# EAGLE library part SSD1961 (library solomon-systech)
675KB Embedded Display SRAM LCD Display Controller Source: www.solomon-systech.com .. SSD1961_0.10.pdf
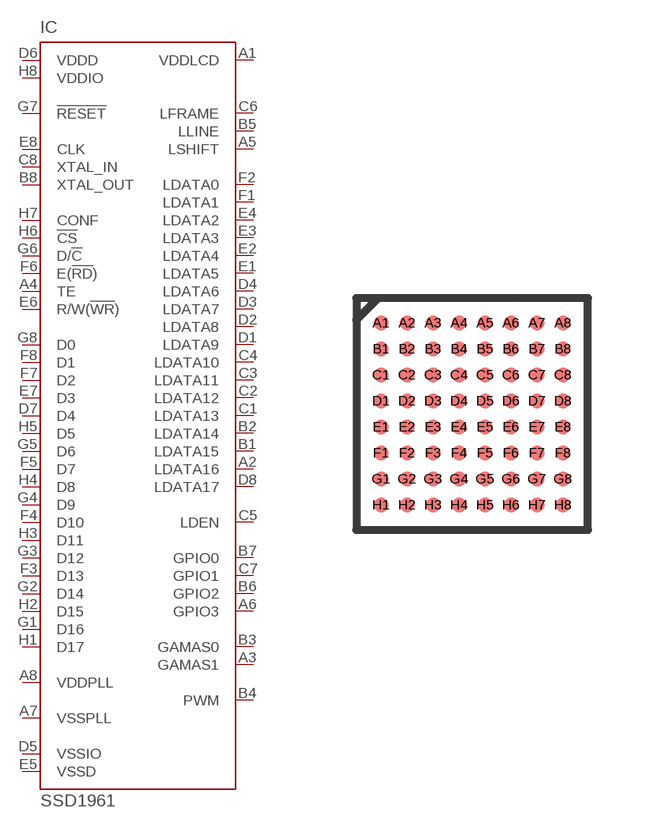
[diagram p0: symbol with the pads of TFBGA-64; footprint TFBGA-64]

Designator prefix IC

## SSD1961 (OC_FARNELL: unknown; OC_NEWARK: unknown)  [TFBGA-64]
A1  VDDLCD  pwr
A2  LDATA16  out
A3  GAMAS1  out
A4  TE  out
A5  LSHIFT  out
A6  GPIO3
A7  VSSPLL  pwr
A8  VDDPLL  pwr
B1  LDATA15  out
B2  LDATA14  out
B3  GAMAS0  out
B4  PWM  out
B5  LLINE  out
B6  GPIO2
B7  GPIO0
B8  XTAL_OUT  out
C1  LDATA13  out
C2  LDATA12  out
C3  LDATA11  out
C4  LDATA10  out
C5  LDEN  out
C6  LFRAME  in
C7  GPIO1
C8  XTAL_IN  in
D1  LDATA9  out
D2  LDATA8  out
D3  LDATA7  out
D4  LDATA6  out
D5  VSSIO  pwr
D6  VDDD  pwr
D7  D4
D8  LDATA17  out
E1  LDATA5  out
E2  LDATA4  out
E3  LDATA3  out
E4  LDATA2  out
E5  VSSD  pwr
E6  R/W(!WR!)  in
E7  D3
E8  CLK  in
F1  LDATA1  out
F2  LDATA0  out
F3  D13
F4  D10
F5  D7
F6  E(!RD!)  in
F7  D2
F8  D1
G1  D16
G2  D14
G3  D12
G4  D9
G5  D6
G6  D/!C  in
G7  !RESET  in
G8  D0
H1  D17
H2  D15
H3  D11
H4  D8
H5  D5
H6  !CS  in
H7  CONF  in
H8  VDDIO  pwr

## Footprint TFBGA-64 (pad centres in mm)
TFBGA 64, 6 x 6 mm Source: www.solomon-systech.com .. SSD1961_0.10.pdf
smd 0.37 x 0.37: A1 -2.275,2.275; A2 -1.625,2.275; A3 -0.975,2.275; A4 -0.325,2.275; A5 0.325,2.275; A6 0.975,2.275; A7 1.625,2.275; A8 2.275,2.275; B1 -2.275,1.625; B2 -1.625,1.625; B3 -0.975,1.625; B4 -0.325,1.625; B5 0.325,1.625; B6 0.975,1.625; B7 1.625,1.625; B8 2.275,1.625; C1 -2.275,0.975; C2 -1.625,0.975; C3 -0.975,0.975; C4 -0.325,0.975; C5 0.325,0.975; C6 0.975,0.975; C7 1.625,0.975; C8 2.275,0.975; D1 -2.275,0.325; D2 -1.625,0.325; D3 -0.975,0.325; D4 -0.325,0.325; D5 0.325,0.325; D6 0.975,0.325; D7 1.625,0.325; D8 2.275,0.325; E1 -2.275,-0.325; E2 -1.625,-0.325; E3 -0.975,-0.325; E4 -0.325,-0.325; E5 0.325,-0.325; E6 0.975,-0.325; E7 1.625,-0.325; E8 2.275,-0.325; F1 -2.275,-0.975; F2 -1.625,-0.975; F3 -0.975,-0.975; F4 -0.325,-0.975; F5 0.325,-0.975; F6 0.975,-0.975; F7 1.625,-0.975; F8 2.275,-0.975; G1 -2.275,-1.625; G2 -1.625,-1.625; G3 -0.975,-1.625; G4 -0.325,-1.625; G5 0.325,-1.625; G6 0.975,-1.625; G7 1.625,-1.625; G8 2.275,-1.625; H1 -2.275,-2.275; H2 -1.625,-2.275; H3 -0.975,-2.275; H4 -0.325,-2.275; H5 0.325,-2.275; H6 0.975,-2.275; H7 1.625,-2.275; H8 2.275,-2.275